# Altium integrated library ReefingCutterPCB_V4.IntLib: 12 symbols
Pins are listed as number, name and electrical type; pins without a type are passive.

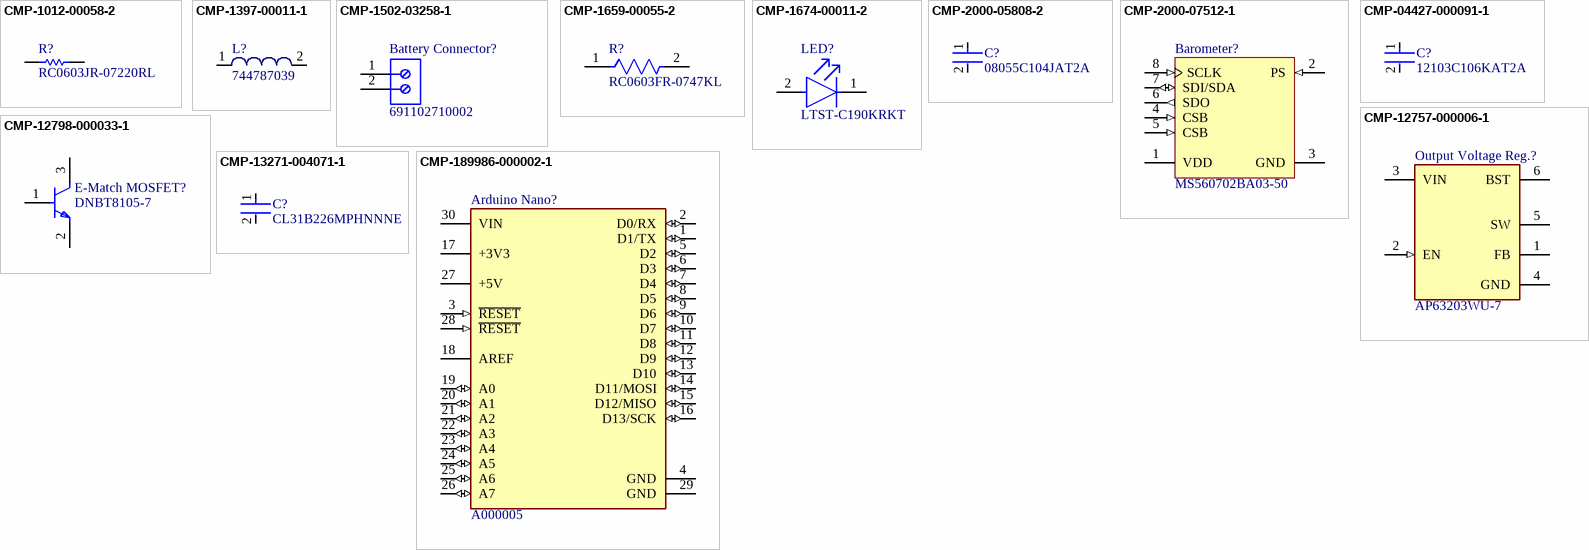
[diagram p0: symbols CMP-1012-00058-2 to CMP-189986-000002-1]

## CMP-1012-00058-2
designator R?, comment RC0603JR-07220RL
Chip Resistor, 220 Ohm, +/- 5%, 0.1 W, -55 to 155 degC, 0603 (1608 Metric), RoHS, Tape and Reel; Manufacturer: Yageo; Manufacturer: Vishay Dale; Manufacturer Part Number: CRCW0603220RJNEC; Manufacturer Part Number: CRCW0603220RJNTC; Manufacturer: Vishay; Manufacturer Part Number: CRCW0603220RJNEA; Manufacturer Part Number: CRCW0603220RJNTA; Manufacturer Part Number: CRCW0603220RJNEB; Manufacturer: Bourns; Manufacturer Part Number: CR0603-JW-221ELF; Manufacturer: Panasonic; Manufacturer Part Number: ERJ-3GEYJ221V; Temperature Coefficient: 100PPM/C; Voltage Rating: 50V; Resistance: 220Ohms; Power Rating: 100mW; Mounting Technology: SurfaceMount; Tolerance: 5%; Datasheet URL: http://www.yageo.com/documents/recent/PYu-RC_Group_51_RoHS_L_7.pdf; Operating Temperature Range: -55Cto+155C; Packaging: Reel; Package Description: 2-Pin Surface Mount Device, Body 1.6 x 0.8 mm; Termination Style: SMD/SMT; Datasheet Version: Rev. 7, 05/2017; Product: ThickFilmResistorsGeneralPurpose; Package Reference: 0603; Case Code - in: 0603; Manufacturer URL: http://www.yageo.com/; Case Code - mm: 1608; Series: RC; Manufacturer Part Number: RC0603JR-07220RL
footprint RESC1608X55X25LL10T15 (Chip Resistor, 2-Leads, Body 1.60x0.80mm, IPC High Density)
footprint RESC1608X55X25ML10T15 (Chip Resistor, 2-Leads, Body 1.70x0.90mm, IPC Low Density)
footprint RESC1608X55X25NL10T15 (Chip Resistor, 2-Leads, Body 1.70x0.90mm, IPC Medium Density)
pins: 1, 2

## CMP-1397-00011-1
designator L?, comment 744787039
Shielded Power Inductor WE-PD2SR, L=3.9 µH; Manufacturer: Wuerth Elektronik; Manufacturer: Wurth Electronics; Inductance: 3.9 ÂµH; ComponentLink1URL: http://www.we-online.com; PackageReference: WE-PD2SR 7850; ComponentLink1Description: Manufacturer URL; PartNumber: 744787039; ComponentLink2URL: http://www.we-online.de/katalog/media/pdf/744787039.pdf; ComponentLink2Description: Datasheet; Manufacturer Part Number: 744787039
footprint WE-PD2SR 7850 (Chip Inductor, 2-Leads, Body 7.8x7.0mm, IPC Medium Density)
pins: 1, 2

## CMP-1502-03258-1
designator Battery Connector?, comment 691102710002
Series 102 - 5.00 mm Horizontal Entry Modular with Pressure Clamp WR-TBL, 2 pin; Manufacturer: Wurth Elektronik; Manufacturer: Wurth Electronics; Pin Number: 2; Pitch: 5.00mm; Manufacturer URL: http://www.we-online.de; Mounting Technology: THT; Publisher: WurthElektronik; Packaging: Box; Package Reference: 691102710002; Datasheet URL: http://katalog.we-online.de/em/datasheet/6911027100xx.pdf; Operating Temperature: -40to105degC; Part Number: 691102710002; Manufacturer Part Number: 691102710002
footprint 691102710002 (5,00mm - modular - blue - Horizontal entry with pressure clamp - 9,9 mm height - 02p)
pins: 1, 2

## CMP-1659-00055-2
designator R?, comment RC0603FR-0747KL
RES SMD 47K OHM 1% 1/10W 0603; Manufacturer: Yageo; Voltage Rating: 50V; Temperature Coefficient: 100ppm/°C; Max Power Dissipation: 100mW; Resistance: 47kR; Voltage Rating (DC): 50V; Min Operating Temperature: -55°C; Packaging: Tape and Reel; Features: Moisture Resistant; Termination: SMD/SMT; Technology: THICK FILM; Lead Free: Lead Free; Max Operating Temperature: 155°C; Width: 0.031inch; Case Code (Metric): 1608; Tolerance: 1%; Package Quantity: 1; Resistor Type: Thick Film; RoHS Compliant: Yes; Case/Package: 0603; Case Code (Imperial): 0603; Resistance Tolerance: 1%; Length: 0.063inch; Series: RC; Number of Pins: 2; Power Rating: 100mW; Number of Terminations: 2; Construction: Rectangular; Height: 0.022inch; Military Standard: Not; Size Code: 0603; Depth: 0.8mm; Manufacturer Part Number: RC0603FR-0747KL
footprint FP-RC0603FR-0747KL-MFG
footprint FP-RC0603FR-0747KL-IPC_C
footprint FP-RC0603FR-0747KL-IPC_B
footprint FP-RC0603FR-0747KL-IPC_A
pins: 1, 2

## CMP-1674-00011-2
designator LED?, comment LTST-C190KRKT
LED RED CLEAR CHIP SMD; Manufacturer: Vishay Lite-On; Reverse Voltage: 5V; Viewing Angle: 130°; Power Rating: 75mW; Test Current: 20mA; Number of Elements: 1; Lens Color: Colorless; Wavelength: 639nm; Dominant Wavelength: 631nm; Lens Style: Diffused; Forward Current: 30mA; Forward Voltage: 2.4V; Luminous Intensity: 54mcd; Color: Red; Case Code (Imperial): 0603; Lens Transparency: Clear; Lead Free: Lead Free; Package Quantity: 1; Packaging: Tape and Reel; Max Operating Temperature: 85°C; Number of Pins: 2; Height: 0.8mm; Case/Package: 0603; Number of LEDs: 1; Width: 0.8mm; Case Code (Metric): 1608; Depth: 0.8mm; Mount: Surface Mount; Radiation Hardening: No; Length: 1.6mm; Illumination Color: Red; Power Dissipation: 75mW; Min Operating Temperature: -55°C; Manufacturer Part Number: LTST-C190KRKT
footprint FP-LTST-C190KRKT-MFG
pins: 1 C, 2 A

## CMP-2000-05808-2
designator C?, comment 08055C104JAT2A
General Purpose Ceramic Capacitor, 0805, 100nF, 5%, X7R, 0.15, 50V; Manufacturer: Kyocera AVX; Dissipation Factor: 2.5%; Insulation Resistance: 100GR; Length: 2.01mm; Min Operating Temperature: -55°C; Number of Pins: 2; Width: 0.049inch; Height: 0.94mm; Max Operating Temperature: 125°C; RoHS Compliant: Yes; Depth: 1.25mm; Radiation Hardening: No; Case Code (Metric): 2012; Case/Package: 0805; Contact Plating: Tin; Mount: Surface Mount; Tolerance: 5%; Dielectric Material: Ceramic; Case Code (Imperial): 0805; Capacitance: 100nF; Dielectric: X7R; Voltage Rating: 50V; REACH SVHC: No SVHC; Thickness: 0.037inch; Voltage Rating (DC): 50V; Lead Free: Lead Free; Package Quantity: 1; Packaging: Tape and Reel; Voltage: 50V; Termination: SMD/SMT; Manufacturer Part Number: 08055C104JAT2A
footprint FP-0805-L_2_01_0_2-W_1_25-MFG
footprint FP-0805-L_2_01_0_2-W_1_25-IPC_B
footprint FP-0805-L_2_01_0_2-W_1_25-IPC_C
footprint FP-0805-L_2_01_0_2-W_1_25-IPC_A
pins: 1, 2

## CMP-2000-07512-1
designator Barometer?, comment MS560702BA03-50
Barometric Pressure Sensor, with Stainless Steel Cap , 1.8 to 3.6 V, -40 to 85 degC, 8-Pin SMD, RoHS, Tape and Reel; Manufacturer: TE Connectivity; Manufacturer: Measurement Specialties; Lead Free: LeadFree; RoHSCompliant: false; Mounting Technology: SurfaceMount; Datasheet URL: http://www.te.com/commerce/DocumentDelivery/DDEController?Action=showdoc&DocId=Data+Sheet%7FMS5607-02BA03%7FB2%7Fpdf%7FEnglish%7FENG_DS_MS5607-02BA03_B2.pdf%7FMS560702BA03-50; Manufacturer URL: http://www.te.com/; Package Description: 8-Pin Surface Mount Device, Body 3 x 5 mm, Pitch 1.25 mm; Package Reference: MS560702BA03-50; Datasheet Version: 06/2017; Manufacturer Part Number: MS560702BA03-50
footprint TECO-MS560702BA03-50_V (SMD, 8-Leads, Body 3x5mm, Pitch 1.25mm)
pins: 1 VDD (power) "Positive supply voltage", 2 PS (in) "Protocol select. PS high (VDD) ---> I2C. PS low (GND) ---> SPI", 3 GND (power) "Ground", 4 CSB (in) "Chip select (active low), internal connection", 5 CSB (in) "Chip select (active low), internal connection", 6 SDO (out) "Serial data output", 7 SDI/SDA (io) "Serial data input / I2C data IO", 8 SCLK (in) "Serial data clock"

## CMP-04427-000091-1
designator C?, comment 12103C106KAT2A
General Purpose Ceramic Capacitor, 1210, 10uF, 10%, X7R, 15%, 25V; Manufacturer: Kyocera AVX; Contact Plating: Tin; Lead Free: Lead Free; Height: 2.79mm; Length: 3.2mm; Capacitance: 10uF; REACH SVHC: No SVHC; Max Operating Temperature: 125°C; Tolerance: 10%; Thickness: 0.11inch; Voltage Rating (DC): 25V; Radiation Hardening: No; Packaging: Tape and Reel; Termination: SMD/SMT; Width: 0.098inch; Series: -; Package Quantity: 1; Construction: Flat; Mount: Surface Mount; Depth: 2.5mm; Min Operating Temperature: -55°C; RoHS Compliant: Yes; Case/Package: 1210; Dielectric: X7R; Voltage Rating: 25V; Case Code (Imperial): 1210; Voltage: 25V; Case Code (Metric): 3225; Manufacturer Part Number: 12103C106KAT2A
footprint FP-1210-L_3_3_0_4-W_2_5_0-MFG
footprint FP-1210-L_3_3_0_4-W_2_5_0-IPC_A
footprint FP-1210-L_3_3_0_4-W_2_5_0-IPC_C
footprint FP-1210-L_3_3_0_4-W_2_5_0-IPC_B
pins: 1, 2

## CMP-12757-000006-1
designator Output Voltage Reg.?, comment AP63203WU-7
IC REG BUCK 3.3V 2A TSOT26; Manufacturer: Diodes Inc.; Manufacturer: Diodes; Output Type: Fixed; Min Supply Voltage: 3.8V; Number Of Outputs: 1; Max Junction Temp: +160°C; Nominal Supply Current: 22uA; Standoff Height: 0.01mm; Switching Frequency: 1.1MHz; Max Supply Voltage: 32V; ComponentLink2Description: Datasheet; Device Class L1: Integrated Circuits (ICs); Temperature: to +160°C; Device Class L3: Voltage Regulators - Switching; RoHS: TRUE; Octopart: https://octopart.com/ap63203wu-7-diodes+inc.-98099550; Output Voltage: 3.3V; Lead Free: Yes; ComponentLink2URL: https://www.diodes.com/assets/Datasheets/AP63200-AP63201-AP63203-AP63205.pdf; Digikey Description: IC REG BUCK 3.3V 2A TSOT26; Footprint Url: https://www.diodes.com/assets/Package-Files/TSOT26.pdf; Ambient Temperature Range High: +85°C; Height: 1mm; Automotive: No; Temperature Range High: +160°C; Switching Topology: Buck; Output Current: 2A; Package: TSOT26; Category: IC; Mouser Description: AP63203 Series 3.3 V 2 A SMT Fixed Low IQ Synchronous Buck - TSOT-26; Device Class L2: Power Management ICs; Ambient Temperature Range Low: -40°C; Manufacturer Part Number: AP63203WU-7
footprint FP-TSOT26-MFG
footprint FP-TSOT26-IPC_C
footprint FP-TSOT26-IPC_B
footprint FP-TSOT26-IPC_A
pins: 1 FB, 2 EN (in), 3 VIN (power), 4 GND (power), 5 SW, 6 BST

## CMP-12798-000033-1
designator E-Match MOSFET?, comment DNBT8105-7
TRANS NPN 60V 1A SOT23-3; Manufacturer: Diodes Zetex; hFE Min: 30; Gain Bandwidth Product: 150MHz; Number of Elements: 1; Max Power Dissipation: 600mW; Collector Base Voltage (VCBO): 80V; Power Dissipation: 300mW; Element Configuration: Single; Collector Emitter Saturation Voltage: 500mV; Emitter Base Voltage (VEBO): 5V; Collector Emitter Breakdown Voltage: 60V; Weight: 0.000282oz; Contact Plating: Tin; Collector Emitter Voltage (VCEO): 60V; Packaging: Tape and Reel; Number of Pins: 3; Max Operating Temperature: 150°C; Width: 1.3mm; Length: 2.9mm; Transition Frequency: 150MHz; Radiation Hardening: No; Case/Package: SOT-23; Number of Terminals: 3; REACH SVHC: No SVHC; Max Breakdown Voltage: 60V; Mount: Surface Mount; Polarity: NPN; Current Rating: 1A; Frequency: 150MHz; Min Operating Temperature: -55°C; Max Collector Current: 1A; Lead Free: Lead Free; Package Quantity: 3000; Voltage Rating (DC): 60V; Height: 1mm; Manufacturer Part Number: DNBT8105-7
footprint FP-SOT23-IPC_A
footprint FP-SOT23-MFG
footprint FP-SOT23-IPC_C
footprint FP-SOT23-IPC_B
pins: 1 B, 2 E, 3 C

## CMP-13271-004071-1
designator C?, comment CL31B226MPHNNNE
Cap Ceramic 22uF 10V X7R ±20% SMD 1206 +125°C Embossed T/R; Manufacturer: Samsung; Min Operating Temperature: -55°C; Tolerance: 20%; Case Code (Metric): 3216; Width: 0.063inch; Packaging: Tape and Reel; Thickness: 0.071inch; Max Operating Temperature: 125°C; Voltage Rating: 10V; Case Code (Imperial): 1206; Voltage Rating (DC): 10V; Capacitance: 22uF; Mount: Surface Mount; Length: 0.126inch; Case/Package: 1206; Lead Free: Lead Free; Package Quantity: 1; Manufacturer Part Number: CL31B226MPHNNNE
footprint FP-CL31-IPC_C
footprint FP-CL31-IPC_A
footprint FP-CL31-IPC_B
pins: 1, 2

## CMP-189986-000002-1
designator Arduino Nano?, comment A000005
ARDUINO NANO ATMEGA328 EVAL BRD; Manufacturer: TDK; Manufacturer Part Number: C3216X6S2A106K160AC; Number of Bits: 8; Evaluation Kit: Yes; Operating Supply Voltage: 12V; Interface: I2C; Data Bus Width: 8b; Core Architecture: AVR; Packaging: Bulk; Length: 7inch; Package Quantity: 50; Width: 5inch; REACH SVHC: No SVHC; Weight: 0.358383oz; Series: AVR® ATmega; Height: 0.25inch; Supplier: Mouser; Supplier Part Number: 810-C3216X6S2A106K16; RoHS: Yes; Category: Ceramic Capacitors; Stock: 26512; Pricing: 1=1.33000, 10=1.05000, 50=1.05000, 100=0.78800, 500=0.59500, 1000=0.56600, 2000=0.56500, 4000=0.54500, 10000=0.51500 (USD); Manufacturer: Arduino; Manufacturer Part Number: A000005
footprint FP-A000005-MFG
pins: 1 D1/TX (io), 2 D0/RX (io), 3 ~{RESET} (in), 4 GND (power), 5 D2 (io), 6 D3 (io), 7 D4 (io), 8 D5 (io), 9 D6 (io), 10 D7 (io), 11 D8 (io), 12 D9 (io), 13 D10 (io), 14 D11/MOSI (io), 15 D12/MISO (io), 16 D13/SCK (io), 17 +3V3 (power), 18 AREF, 19 A0 (io), 20 A1 (io), 21 A2 (io), 22 A3 (io), 23 A4 (io), 24 A5 (io), 25 A6 (io), 26 A7 (io), 27 +5V (power), 28 ~{RESET} (in), 29 GND (power), 30 VIN (power)